# EAGLE library part WIRELESS-BLUETOOTH-HC-05 (library RLEG-library)
Bluetooth Transceiver Module based on HC-05 board Tutorial is available here: https://arduino-info.wikispaces.com/BlueTooth-HC05-HC06-Modules-How-To Click here to find device on ebay.com <http://www.ebay.com/sch/hc-05+module+rs232>
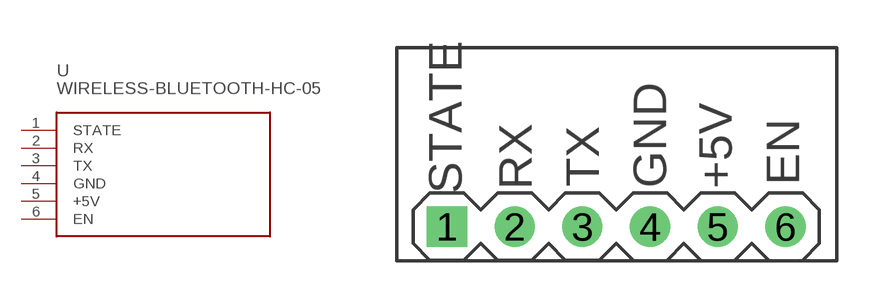
[diagram p2: symbol with the pads of WIRELESS-BLUETOOTH-HC-05; footprint WIRELESS-BLUETOOTH-HC-05]

Designator prefix -

## WIRELESS-BLUETOOTH-HC-05  [WIRELESS-BLUETOOTH-HC-05]
1  STATE
2  RX
3  TX
4  GND  pwr
5  +5V  pwr
6  EN

## Footprint WIRELESS-BLUETOOTH-HC-05 (pad centres in mm)
Bluetooth Transceiver Module based on HC-05 board
drill 1 square: 1 -4.07,-5.025
drill 1: 2 -1.53,-5.025; 3 1.01,-5.025; 4 3.55,-5.025; 5 6.09,-5.025; 6 8.63,-5.025